# Altium schematic symbol library EXB-2HV472JV.SchLib: 1 symbol
Pins are listed as number, name and electrical type; pins without a type are passive.

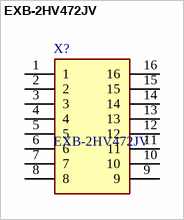
[diagram p0: symbol EXB-2HV472JV]

## EXB-2HV472JV
designator X?
Resistor Networks & Arrays 4.7K OHM 5%; Manufacturer_Name: Panasonic; Geometry.Height: 0.55mm; Mouser Part Number: 667-EXB-2HV472JV; Mouser Price/Stock: https://www.mouser.co.uk/ProductDetail/Panasonic/EXB-2HV472JV?qs=oE3VwAv%2FYtkXaKqnJAGNag%3D%3D; Manufacturer_Part_Number: EXB-2HV472JV; Datasheet Link: https://industrial.panasonic.com/cdbs/www-data/pdf/AOC0000/AOC0000C14.pdf
footprint EXB2HV472JV
pins: 1, 2, 3, 4, 5, 6, 7, 8, 9, 10, 11, 12, 13, 14, 15, 16